# Altium footprint library IC-SMD.PCBLIB: 298 footprints (part 9 of 19)
Each footprint in its own frame and in the unit in brackets; x right, y up, seen from the top. Pads: shape width x height; smd on the part's side, far side on the other; paste and mask are expansions set on the pad; w line width, h text height; cw(c..) or ccw(c..) is an arc to the next point about the centre after c.
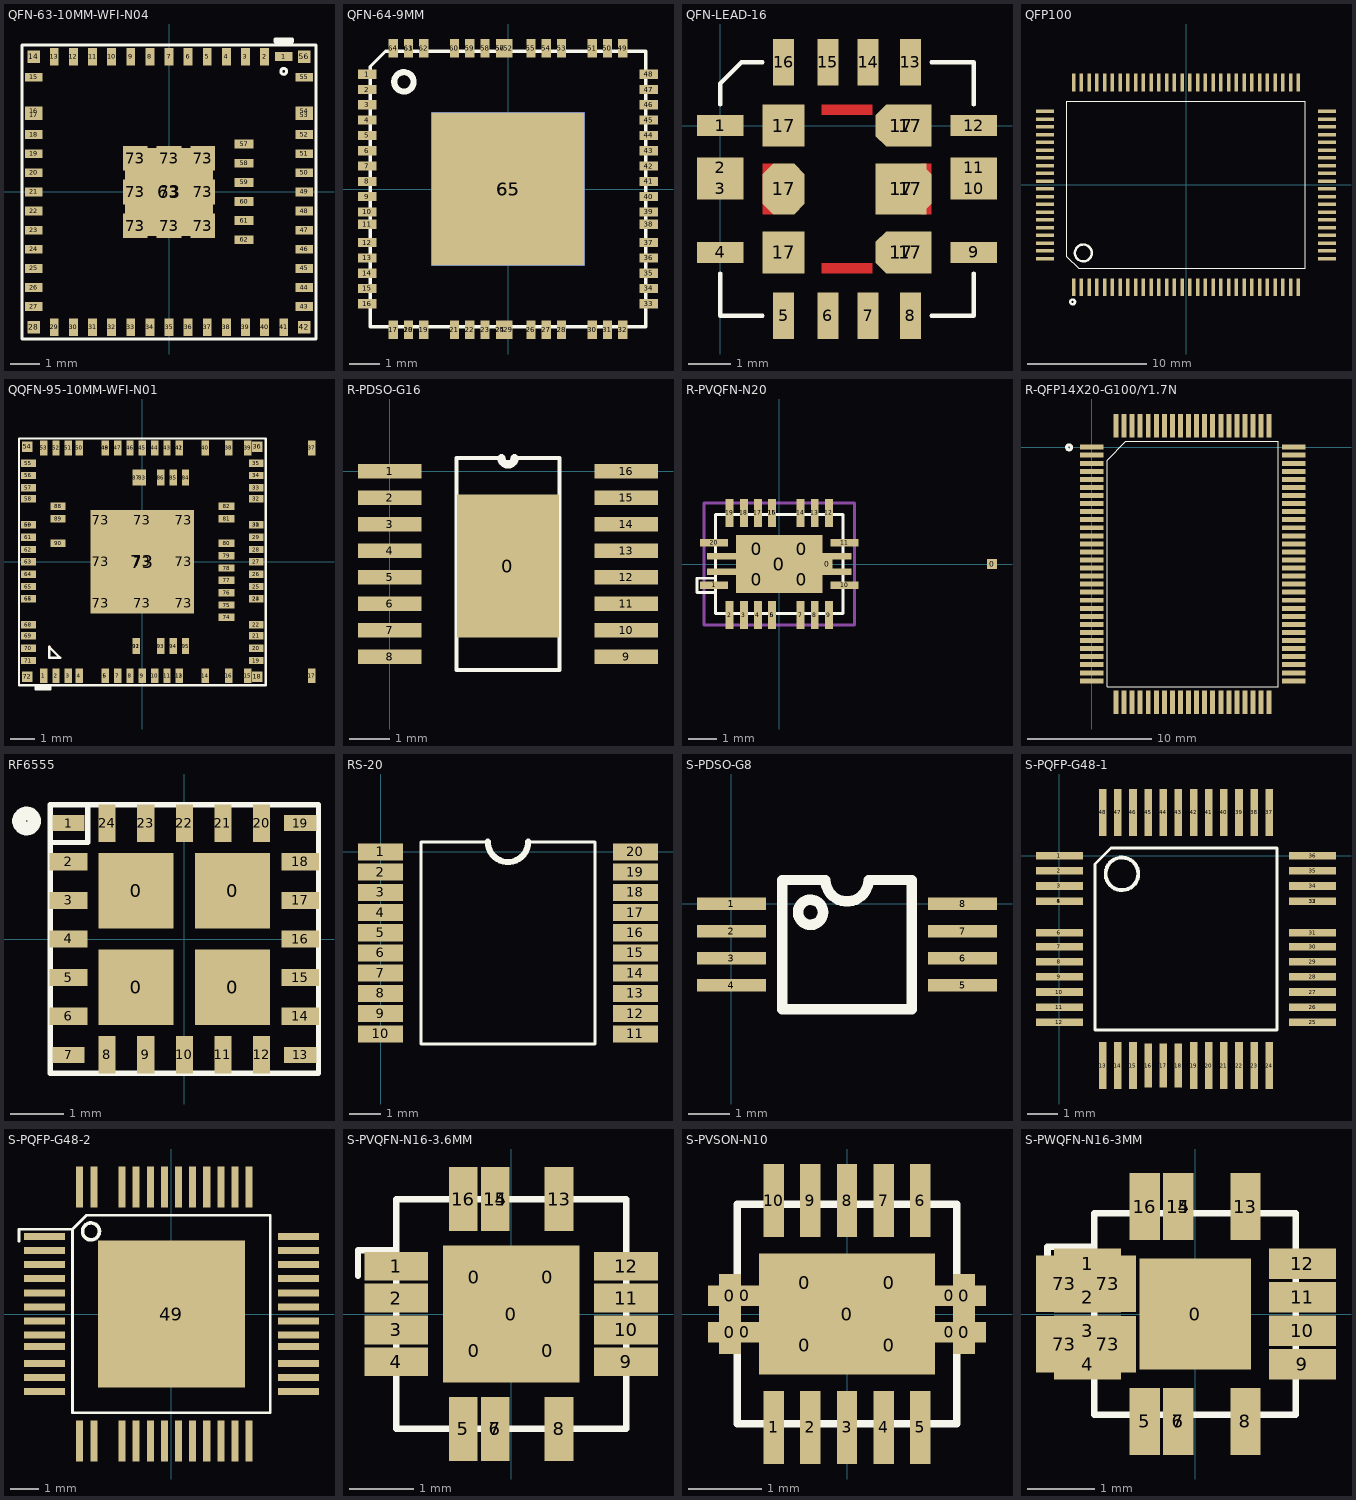
[diagram p8: the footprints below, top view; thin cyan lines are the x and y axes]

## QFN-63-10MM-WFI-N04 [mm] "QFN-63-10MM-WFI-N04"
pads (72):
  rect 0.6x0.3 smd: 1(3.9,4.6) 15(-4.6,3.9) 16(-4.6,2.75) 17(-4.6,2.6) 18(-4.6,1.95) 19(-4.6,1.3) 20(-4.6,0.65) 21(-4.6,0) 22(-4.6,-0.65) 23(-4.6,-1.3) 24(-4.6,-1.95) 25(-4.6,-2.6) 26(-4.6,-3.25) 27(-4.6,-3.9) 43(4.6,-3.9) 44(4.6,-3.25) 45(4.6,-2.6) 46(4.6,-1.95) 47(4.6,-1.3) 48(4.6,-0.65) 49(4.6,0) 50(4.6,0.65) 51(4.6,1.3) 52(4.6,1.95) 53(4.6,2.6) 54(4.6,2.75) 55(4.6,3.9)
  rect 0.3x0.6 smd: 2(3.25,4.6) 3(2.6,4.6) 4(1.95,4.6) 5(1.3,4.6) 6(0.65,4.6) 7(0,4.6) 8(-0.65,4.6) 9(-1.3,4.6) 10(-1.95,4.6) 11(-2.6,4.6) 12(-3.25,4.6) 13(-3.9,4.6) 29(-3.9,-4.6) 30(-3.25,-4.6) 31(-2.6,-4.6) 32(-1.95,-4.6) 33(-1.3,-4.6) 34(-0.65,-4.6) 35(0,-4.6) 36(0.65,-4.6) 37(1.3,-4.6) 38(1.95,-4.6) 39(2.6,-4.6) 40(3.25,-4.6) 41(3.9,-4.6)
  rect 0.424x0.424 smd: 14(-4.6,4.6) 28(-4.6,-4.6) 42(4.6,-4.6) 56(4.6,4.6)
  rect 0.65x0.3 smd: 57(2.55,1.625) 58(2.55,0.975) 59(2.55,0.325) 60(2.55,-0.325) 61(2.55,-0.975) 62(2.55,-1.625)
  rect 3x3 smd: 63(0,0)
  rect 0.84x0.84 smd: 73(-1.15,-1.15) 73(-1.15,0) 73(-1.15,1.15) 73(0,-1.15) 73(0,0) 73(0,1.15) 73(1.15,-1.15) 73(1.15,0) 73(1.15,1.15)
TopOverlay:
  circle w0.1: c3.9,4.1 r0.1
  lines w0.1: -5,-5 5,-5 5,5 -5,5 -5,-5 ; 3.6,5.1 4.2,5.1 4.2,5.2 3.6,5.2 3.6,5.1

## QFN-64-9MM [mm]
pads (66):
  rect 0.6x0.3 smd: 1(-4.6,3.75) 2(-4.6,3.25) 3(-4.6,2.75) 4(-4.6,2.25) 5(-4.6,1.75) 6(-4.6,1.25) 7(-4.6,0.75) 8(-4.6,0.25) 9(-4.6,-0.25) 10(-4.6,-0.75) 11(-4.6,-1.15) 12(-4.6,-1.75) 13(-4.6,-2.25) 14(-4.6,-2.75) 15(-4.6,-3.25) 16(-4.6,-3.75) 33(4.6,-3.75) 34(4.6,-3.25) 35(4.6,-2.75) 36(4.6,-2.25) 37(4.6,-1.75) 38(4.6,-1.15) 39(4.6,-0.75) 40(4.6,-0.25) 41(4.6,0.25) 42(4.6,0.75) 43(4.6,1.25) 44(4.6,1.75) 45(4.6,2.25) 46(4.6,2.75) 47(4.6,3.25) 48(4.6,3.75)
  rect 0.3x0.6 smd: 17(-3.75,-4.6) 18(-3.25,-4.6) 19(-2.75,-4.6) 20(-3.25,-4.6) 21(-1.75,-4.6) 22(-1.25,-4.6) 23(-0.75,-4.6) 24(-0.25,-4.6) 25(-0.25,-4.6) 26(0.75,-4.6) 27(1.25,-4.6) 28(1.75,-4.6) 29(0,-4.6) 30(2.75,-4.6) 31(3.25,-4.6) 32(3.75,-4.6) 49(3.75,4.6) 50(3.25,4.6) 51(2.75,4.6) 52(0,4.6) 53(1.75,4.6) 54(1.25,4.6) 55(0.75,4.6) 56(-0.25,4.6) 57(-0.25,4.6) 58(-0.75,4.6) 59(-1.25,4.6) 60(-1.75,4.6) 61(-3.25,4.6) 62(-2.75,4.6) 63(-3.25,4.6) 64(-3.75,4.6)
  rect 5x5 smd: 65(0,0)
  rect 5x5 smd far side: 65(0,0)
TopOverlay:
  circle w0.2: c-3.4,3.5 r0.316
  lines w0.1: -4.5,-4.5 4.5,-4.5 4.5,4.5 -4,4.5 -4.5,4 -4.5,-4.5

## QFN-LEAD-16 [mm]
pads (25):
  rect 1.1x0.5 smd: 1(0,0) 2(0,-1) 3(0,-1.5) 4(0,-3) 9(6,-3) 10(6,-1.5) 11(6,-1) 12(6,0)
  rect 0.5x1.1 smd: 5(1.5,-4.5) 6(2.55,-4.5) 7(3.5,-4.5) 8(4.5,-4.5) 13(4.5,1.5) 14(3.5,1.5) 15(2.55,1.5) 16(1.5,1.5)
  rect 1x1 smd: 17(1.5,-3) 17(1.5,0) 17(4.5,-3) 17(4.5,0)
  oct 1x1.2 smd: 17(1.5,-1.5) 17(4.5,-1.5)
  oct 1.2x1 smd: 17(4.28,-3) 17(4.28,0)
  rect 1.2x1.2 smd: 17(4.28,-1.5)
TopLayer:
  rectangle: 1,-2.1 1.25,-0.9
  rectangle: 4.75,-2.1 5,-0.9
  rectangle: 2.4,0.25 3.6,0.5
  rectangle: 2.4,-3.5 3.6,-3.25
TopOverlay:
  lines w0.1: 0,-3.5 0,-4.5 1,-4.5 ; 0,0.5 0,1 0.5,1.5 1,1.5 ; 5,-4.5 6,-4.5 6,-3.5 ; 5,1.5 6,1.5 6,0.5
TopSolder:
  rectangle: 0.9,-3.6 5.1,0.6

## QFP100 [mm]
pads (100):
  rect 0.3x1.5 smd: 1(-9.425,-8.575) 2(-8.775,-8.575) 3(-8.125,-8.575) 4(-7.475,-8.575) 5(-6.825,-8.575) 6(-6.175,-8.575) 7(-5.525,-8.575) 8(-4.875,-8.575) 9(-4.225,-8.575) 10(-3.575,-8.575) 11(-2.925,-8.575) 12(-2.275,-8.575) 13(-1.625,-8.575) 14(-0.975,-8.575) 15(-0.325,-8.575) 16(0.325,-8.575) 17(0.975,-8.575) 18(1.625,-8.575) 19(2.275,-8.575) 20(2.925,-8.575) 21(3.575,-8.575) 22(4.225,-8.575) 23(4.875,-8.575) 24(5.525,-8.575) 25(6.175,-8.575) 26(6.825,-8.575) 27(7.475,-8.575) 28(8.125,-8.575) 29(8.775,-8.575) 30(9.425,-8.575) 51(9.425,8.575) 52(8.775,8.575) 53(8.125,8.575) 54(7.475,8.575) 55(6.825,8.575) 56(6.175,8.575) 57(5.525,8.575) 58(4.875,8.575) 59(4.225,8.575) 60(3.575,8.575) 61(2.925,8.575) 62(2.275,8.575) 63(1.625,8.575) 64(0.975,8.575) 65(0.325,8.575) 66(-0.325,8.575) 67(-0.975,8.575) 68(-1.625,8.575) 69(-2.275,8.575) 70(-2.925,8.575) 71(-3.575,8.575) 72(-4.225,8.575) 73(-4.875,8.575) 74(-5.525,8.575) 75(-6.175,8.575) 76(-6.825,8.575) 77(-7.475,8.575) 78(-8.125,8.575) 79(-8.775,8.575) 80(-9.425,8.575)
  rect 1.5x0.3 smd: 31(11.825,-6.175) 32(11.825,-5.525) 33(11.825,-4.875) 34(11.825,-4.225) 35(11.825,-3.575) 36(11.825,-2.925) 37(11.825,-2.275) 38(11.825,-1.625) 39(11.825,-0.975) 40(11.825,-0.325) 41(11.825,0.325) 42(11.825,0.975) 43(11.825,1.625) 44(11.825,2.275) 45(11.825,2.925) 46(11.825,3.575) 47(11.825,4.225) 48(11.825,4.875) 49(11.825,5.525) 50(11.825,6.175) 81(-11.825,6.175) 82(-11.825,5.525) 83(-11.825,4.875) 84(-11.825,4.225) 85(-11.825,3.575) 86(-11.825,2.925) 87(-11.825,2.275) 88(-11.825,1.625) 89(-11.825,0.975) 90(-11.825,0.325) 91(-11.825,-0.325) 92(-11.825,-0.975) 93(-11.825,-1.625) 94(-11.825,-2.275) 95(-11.825,-2.925) 96(-11.825,-3.575) 97(-11.825,-4.225) 98(-11.825,-4.875) 99(-11.825,-5.525) 100(-11.825,-6.175)
TopOverlay:
  circle w0.2: c-9.5,-9.8 r0.2
  circle w0.2: c-8.607,-5.7 r0.707
  lines w0.1: -10,-6 -10,7 10,7 10,-7 -9,-7 -10,-6

## QQFN-95-10MM-WFI-N01 [mm] "QFN-95-10MM-WFI-N01"
pads (104):
  rect 0.3x0.6 smd: 1(-4,-4.615) 2(-3.5,-4.615) 3(-3,-4.615) 4(-2.55,-4.615) 5(-1.5,-4.615) 6(-1.5,-4.615) 7(-1,-4.615) 8(-0.5,-4.615) 9(0,-4.615) 10(0.5,-4.615) 11(1,-4.615) 12(1.5,-4.615) 13(1.5,-4.615) 14(2.55,-4.615) 15(4.28,-4.615) 16(3.5,-4.615) 17(6.86,-4.615) 37(6.86,4.615) 38(3.5,4.615) 39(4.28,4.615) 40(2.55,4.615) 41(1.5,4.615) 42(1.5,4.615) 43(1,4.615) 44(0.5,4.615) 45(0,4.615) 46(-0.5,4.615) 47(-1,4.615) 48(-1.5,4.615) 49(-1.5,4.615) 50(-2.55,4.615) 51(-3,4.615) 52(-3.5,4.615) 53(-4,4.615)
  rect 0.424x0.424 smd: 18(4.662,-4.662) 36(4.662,4.662) 54(-4.662,4.662) 72(-4.662,-4.662)
  rect 0.6x0.3 smd: 19(4.615,-4) 20(4.615,-3.5) 21(4.615,-3) 22(4.615,-2.55) 23(4.615,-1.5) 24(4.615,-1.5) 25(4.615,-1) 26(4.615,-0.5) 27(4.615,0) 28(4.615,0.5) 29(4.615,1) 30(4.615,1.5) 31(4.615,1.5) 32(4.615,2.55) 33(4.615,3) 34(4.615,3.5) 35(4.615,4) 55(-4.615,4) 56(-4.615,3.5) 57(-4.615,3) 58(-4.615,2.55) 59(-4.615,1.5) 60(-4.615,1.5) 61(-4.615,1) 62(-4.615,0.5) 63(-4.615,0) 64(-4.615,-0.5) 65(-4.615,-1) 66(-4.615,-1.5) 67(-4.615,-1.5) 68(-4.615,-2.55) 69(-4.615,-3) 70(-4.615,-3.5) 71(-4.615,-4) 88(-3.415,2.25) 89(-3.415,1.75) 90(-3.415,0.75)
  rect 0.84x0.84 smd: 73(-1.68,-1.68) 73(-1.68,0) 73(-1.68,1.68) 73(0,-1.68) 73(0,0) 73(0,1.68) 73(1.68,-1.68) 73(1.68,0) 73(1.68,1.68)
  rect 4.2x4.2 smd: 73(0,0)
  rect 0.65x0.3 smd: 74(3.415,-2.25) 75(3.415,-1.75) 76(3.415,-1.251) 77(3.415,-0.75) 78(3.415,-0.25) 79(3.415,0.249) 80(3.415,0.75) 81(3.415,1.75) 82(3.415,2.25)
  rect 0.3x0.65 smd: 83(0,3.415) 84(1.75,3.415) 85(1.25,3.415) 86(0.75,3.415) 87(-0.25,3.415) 91(-0.25,-3.415) 92(-0.25,-3.415) 93(0.75,-3.415) 94(1.25,-3.415) 95(1.75,-3.415)
TopLayer:
  lines w0.1: -3.753,-3.44 -3.753,-3.44
TopOverlay:
  lines w0.1: -5,-5 5,-5 5,5 -5,5 -5,-5 ; -4.325,-5.175 -4.325,-5.075 -3.725,-5.075 -3.725,-5.175 -4.325,-5.175 ; -3.778,-3.89 -3.778,-3.44 -3.328,-3.89 -3.778,-3.89

## R-PDSO-G16 [mm]
pads (17):
  rect 2.5x3.5 smd: 0(2.9,-2.325)
  rect 1.55x0.35 smd: 1(0,0) 2(0,-0.65) 3(0,-1.3) 4(0,-1.95) 5(0,-2.6) 6(0,-3.25) 7(0,-3.9) 8(0,-4.55) 9(5.8,-4.55) 10(5.8,-3.9) 11(5.8,-3.25) 12(5.8,-2.6) 13(5.8,-1.95) 14(5.8,-1.3) 15(5.8,-0.65) 16(5.8,0)
TopOverlay:
  lines w0.1: 2.738,0.325 1.635,0.325 1.635,-4.875 4.165,-4.875 4.165,0.325 3.062,0.325
  lines w0.2: 2.738,0.325 ccw(c2.9,0.325) 3.062,0.325

## R-PVQFN-N20 [mm]
pads (35):
  rect 0.8x0.23 smd: 0(-2.15,-0.275) 0(-2.15,0.275) 0(2.15,-0.275) 0(2.15,0.275)
  rect 1.5x0.23 smd: 0(-1.8,-0.275) 0(-1.8,0.275) 0(1.8,-0.275) 0(1.8,0.275)
  rect 1.3x0.8 smd: 0(-0.8,-0.55) 0(-0.8,0.525) 0(0.8,-0.55) 0(0.8,0.525)
  rect 3.05x2.05 smd: 0(0,0)
  rect 0.35x0.35 smd: 0(1.7,0) 0(7.5,0)
  rect 1x0.28 smd: 1(-2.3,-0.75) 10(2.3,-0.75) 11(2.3,0.75) 20(-2.3,0.75)
  rect 0.28x1 smd: 2(-1.75,-1.8) 3(-1.25,-1.8) 4(-0.75,-1.8) 5(-0.25,-1.8) 6(-0.25,-1.8) 7(0.75,-1.8) 8(1.25,-1.8) 9(1.75,-1.8) 12(1.75,1.8) 13(1.25,1.8) 14(0.75,1.8) 15(-0.25,1.8) 16(-0.25,1.8) 17(-0.75,1.8) 18(-1.25,1.8) 19(-1.75,1.8)
TopOverlay:
  lines w0.1: -2.25,-1 -2.9,-1 -2.9,-0.5 -2.25,-0.5 ; -2.25,-1.75 -2.25,1.75 2.25,1.75 2.25,-1.75 -2.25,-1.75
Mechanical1:
  lines w0.1: -2.65,-2.15 2.65,-2.15 2.65,2.15 -2.65,2.15 -2.65,-2.15

## R-QFP14X20-G100/Y1.7N [mm]
pads (100):
  rect 1.9x0.4 smd: 1(0,0) 2(0,-0.65) 3(0,-1.3) 4(0,-1.95) 5(0,-2.6) 6(0,-3.25) 7(0,-3.9) 8(0,-4.55) 9(0,-5.2) 10(0,-5.85) 11(0,-6.5) 12(0,-7.15) 13(0,-7.8) 14(0,-8.45) 15(0,-9.1) 16(0,-9.75) 17(0,-10.4) 18(0,-11.05) 19(0,-11.7) 20(0,-12.35) 21(0,-13) 22(0,-13.65) 23(0,-14.3) 24(0,-14.95) 25(0,-15.6) 26(0,-16.25) 27(0,-16.9) 28(0,-17.55) 29(0,-18.2) 30(0,-18.85) 51(16.3,-18.85) 52(16.3,-18.2) 53(16.3,-17.55) 54(16.3,-16.9) 55(16.3,-16.25) 56(16.3,-15.6) 57(16.3,-14.95) 58(16.3,-14.3) 59(16.3,-13.65) 60(16.3,-13) 61(16.3,-12.35) 62(16.3,-11.7) 63(16.3,-11.05) 64(16.3,-10.4) 65(16.3,-9.75) 66(16.3,-9.1) 67(16.3,-8.45) 68(16.3,-7.8) 69(16.3,-7.15) 70(16.3,-6.5) 71(16.3,-5.85) 72(16.3,-5.2) 73(16.3,-4.55) 74(16.3,-3.9) 75(16.3,-3.25) 76(16.3,-2.6) 77(16.3,-1.95) 78(16.3,-1.3) 79(16.3,-0.65) 80(16.3,0)
  rect 0.4x1.9 smd: 31(1.975,-20.575) 32(2.625,-20.575) 33(3.275,-20.575) 34(3.925,-20.575) 35(4.575,-20.575) 36(5.225,-20.575) 37(5.875,-20.575) 38(6.525,-20.575) 39(7.175,-20.575) 40(7.825,-20.575) 41(8.475,-20.575) 42(9.125,-20.575) 43(9.775,-20.575) 44(10.425,-20.575) 45(11.075,-20.575) 46(11.725,-20.575) 47(12.375,-20.575) 48(13.025,-20.575) 49(13.675,-20.575) 50(14.325,-20.575) 81(14.325,1.725) 82(13.675,1.725) 83(13.025,1.725) 84(12.375,1.725) 85(11.725,1.725) 86(11.075,1.725) 87(10.425,1.725) 88(9.775,1.725) 89(9.125,1.725) 90(8.475,1.725) 91(7.825,1.725) 92(7.175,1.725) 93(6.525,1.725) 94(5.875,1.725) 95(5.225,1.725) 96(4.575,1.725) 97(3.925,1.725) 98(3.275,1.725) 99(2.625,1.725) 100(1.975,1.725)
TopOverlay:
  circle w0.25: c-1.81,-0.02 r0.2
  lines w0.1: 1.25,-19.325 15.05,-19.325 15.05,0.475 2.77,0.475 1.25,-1.045 1.25,-19.325

## RF6555 [mm]
pads (28):
  rect 1.4x1.4 smd: 0(-0.9,-0.9) 0(-0.9,0.9) 0(0.9,-0.9) 0(0.9,0.9)
  rect 0.6x0.3 smd: 1(-2.16,2.16) 7(-2.16,-2.16) 13(2.16,-2.16) 19(2.16,2.16)
  rect 0.7x0.32 smd: 2(-2.16,1.44) 3(-2.16,0.72) 4(-2.16,0) 5(-2.16,-0.72) 6(-2.16,-1.44) 14(2.16,-1.44) 15(2.16,-0.72) 16(2.16,0) 17(2.16,0.72) 18(2.16,1.44)
  rect 0.32x0.7 smd: 8(-1.44,-2.16) 9(-0.72,-2.16) 10(0,-2.16) 11(0.72,-2.16) 12(1.44,-2.16) 20(1.44,2.16) 21(0.72,2.16) 22(0,2.16) 23(-0.72,2.16) 24(-1.44,2.16)
TopOverlay:
  circle w0.254: c-2.941,2.2 r0.141
  lines w0.1: -2.5,1.8 -1.8,1.8 -1.8,2.5 ; -2.5,-2.5 -2.5,2.5 2.5,2.5 2.5,-2.5 -2.5,-2.5

## RS-20 [mm]
pads (20):
  rect 1.45x0.55 smd: 1(0,0) 2(0,-0.65) 3(0,-1.3) 4(0,-1.95) 5(0,-2.6) 6(0,-3.25) 7(0,-3.9) 8(0,-4.55) 9(0,-5.2) 10(0,-5.85) 11(8.2,-5.85) 12(8.2,-5.2) 13(8.2,-4.55) 14(8.2,-3.9) 15(8.2,-3.25) 16(8.2,-2.6) 17(8.2,-1.95) 18(8.2,-1.3) 19(8.2,-0.65) 20(8.2,0)
TopOverlay:
  lines w0.1: 3.44,0.325 1.3,0.325 1.3,-6.175 6.9,-6.175 6.9,0.325 4.75,0.325
  lines w0.2: 3.45,0.325 ccw(c4.1,0.325) 4.75,0.325

## S-PDSO-G8 [mm]
pads (8):
  rect 1.65x0.3 smd: 1(0,0) 2(0,-0.65) 3(0,-1.3) 4(0,-1.95) 5(5.55,-1.95) 6(5.55,-1.3) 7(5.55,-0.65) 8(5.55,0)
TopOverlay:
  circle w0.254: c1.9,-0.2 r0.3
  lines w0.25: 1.225,-2.525 1.225,0.575 2.258,0.575 ccw(c2.775,0.575) 3.292,0.575 4.325,0.575 4.325,-2.525 1.225,-2.525

## S-PQFP-G48-1 [mm]
pads (48):
  rect 1.55x0.25 smd: 1(0,0) 2(0,-0.5) 3(0,-1) 4(0,-1.5) 5(0,-1.5) 6(0,-2.55) 7(0,-3) 8(0,-3.5) 9(0,-4) 10(0,-4.5) 11(0,-5) 12(0,-5.5) 25(8.35,-5.5) 26(8.35,-5) 27(8.35,-4.5) 28(8.35,-4) 29(8.35,-3.5) 30(8.35,-3) 31(8.35,-2.55) 32(8.35,-1.5) 33(8.35,-1.5) 34(8.35,-1) 35(8.35,-0.5) 36(8.35,0)
  rect 0.25x1.55 smd: 13(1.425,-6.925) 14(1.925,-6.925) 15(2.425,-6.925) 19(4.425,-6.925) 20(4.925,-6.925) 21(5.425,-6.925) 22(5.925,-6.925) 23(6.425,-6.925) 24(6.925,-6.925) 37(6.925,1.425) 38(6.425,1.425) 39(5.925,1.425) 40(5.425,1.425) 41(4.925,1.425) 42(4.425,1.425) 43(3.925,1.425) 44(3.425,1.425) 45(2.925,1.425) 46(2.425,1.425) 47(1.925,1.425) 48(1.425,1.425)
  rect 0.25x1.45 smd: 16(2.925,-6.925) 17(3.425,-6.925) 18(3.925,-6.925)
TopOverlay:
  circle w0.127: c2.061,-0.6 r0.539
  lines w0.1: 1.175,-5.75 7.175,-5.75 7.175,0.25 1.699,0.25 1.175,-0.274 1.175,-5.75

## S-PQFP-G48-2 [mm]
pads (49):
  rect 1.45x0.25 smd: 1(-4.5,2.75) 2(-4.5,2.25) 3(-4.5,1.75) 4(-4.5,1.25) 5(-4.5,0.75) 6(-4.5,0.25) 7(-4.5,-0.25) 8(-4.5,-0.75) 9(-4.5,-1.15) 10(-4.5,-1.75) 11(-4.5,-2.25) 12(-4.5,-2.75) 25(4.5,-2.75) 26(4.5,-2.25) 27(4.5,-1.75) 28(4.5,-1.15) 29(4.5,-0.75) 30(4.5,-0.25) 31(4.5,0.25) 32(4.5,0.75) 33(4.5,1.25) 34(4.5,1.75) 35(4.5,2.25) 36(4.5,2.75)
  rect 0.25x1.45 smd: 13(-2.75,-4.5) 14(-3.25,-4.5) 15(-1.75,-4.5) 16(-1.25,-4.5) 17(-0.75,-4.5) 18(-0.25,-4.5) 19(0.25,-4.5) 20(0.75,-4.5) 21(1.25,-4.5) 22(1.75,-4.5) 23(2.25,-4.5) 24(2.75,-4.5) 37(2.75,4.5) 38(2.25,4.5) 39(1.75,4.5) 40(1.25,4.5) 41(0.75,4.5) 42(0.25,4.5) 43(-0.25,4.5) 44(-0.75,4.5) 45(-1.25,4.5) 46(-1.75,4.5) 47(-3.25,4.5) 48(-2.75,4.5)
  rect 5.2x5.2 smd: 49(0,0)
TopOverlay:
  circle w0.127: c-2.85,2.925 r0.3
  lines w0.1: -5.4,2.575 -5.4,3 -3.5,3 ; -3.5,3 -3.5,-3.5 3.5,-3.5 3.5,3.5 -3,3.5 -3.5,3

## S-PVQFN-N16-3.6MM [mm]
pads (21):
  rect 0.85x0.8 smd: 0(-0.575,-0.575) 0(-0.575,0.575) 0(0.575,-0.575) 0(0.575,0.575)
  rect 2.14x2.14 smd: 0(0,0)
  rect 1x0.45 smd: 1(-1.8,0.75) 2(-1.8,0.25) 3(-1.8,-0.25) 4(-1.8,-0.75) 9(1.8,-0.75) 10(1.8,-0.25) 11(1.8,0.25) 12(1.8,0.75)
  rect 0.45x1 smd: 5(-0.75,-1.8) 6(-0.25,-1.8) 7(-0.25,-1.8) 8(0.75,-1.8) 13(0.75,1.8) 14(-0.25,1.8) 15(-0.25,1.8) 16(-0.75,1.8)
TopOverlay:
  lines w0.1: -2.4,0.6 -2.4,1 -1.8,1 ; -1.8,-1.8 -1.8,1.8 1.8,1.8 1.8,-1.8 -1.8,-1.8

## S-PVSON-N10 [mm]
pads (23):
  rect 0.3x0.6 smd: 0(-1.6,-0.25) 0(-1.6,0.25) 0(1.6,-0.25) 0(1.6,0.25)
  rect 1x0.28 smd: 0(-1.4,-0.25) 0(-1.4,0.25) 0(1.4,-0.25) 0(1.4,0.25)
  rect 1x0.7 smd: 0(-0.575,-0.425) 0(-0.575,0.425) 0(0.575,-0.425) 0(0.575,0.425)
  rect 2.4x1.65 smd: 0(0,0)
  rect 0.28x1 smd: 1(-1,-1.55) 2(-0.5,-1.55) 3(0,-1.55) 4(0.5,-1.55) 5(1,-1.55) 6(1,1.55) 7(0.5,1.55) 8(0,1.55) 9(-0.5,1.55) 10(-1,1.55)
TopOverlay:
  lines w0.1: -1.5,-1.5 -1.5,1.5 1.5,1.5 1.5,-1.5 -1.5,-1.5

## S-PWQFN-N16-3MM [mm]
pads (21):
  rect 1.66x1.66 smd: 0(0,0)
  rect 1x0.45 smd: 1(-1.6,0.75) 2(-1.6,0.25) 3(-1.6,-0.25) 4(-1.6,-0.75) 9(1.6,-0.75) 10(1.6,-0.25) 11(1.6,0.25) 12(1.6,0.75)
  rect 0.45x1 smd: 5(-0.75,-1.6) 6(-0.25,-1.6) 7(-0.25,-1.6) 8(0.75,-1.6) 13(0.75,1.6) 14(-0.25,1.6) 15(-0.25,1.6) 16(-0.75,1.6)
  rect 0.84x0.84 smd: 73(-1.95,-0.45) 73(-1.95,0.45) 73(-1.3,-0.45) 73(-1.3,0.45)
TopOverlay:
  lines w0.1: -2.2,0.6 -2.2,1 -1.5,1 ; -1.5,-1.5 1.5,-1.5 1.5,1.5 -1.5,1.5 -1.5,-1.5